# Altium schematic symbol library BC856C.Schlib: 1 symbol
Pins are listed as number, name and electrical type; pins without a type are passive.

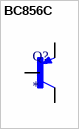
[diagram p0: symbol BC856C]

## BC856C
designator Q?
BJT, SOT-23, 65V, 100mA, PNP, 0.25W, 150Â°C
pins: 1 B, 2 E, 3 C